# EAGLE library part TLP291-4 (library opto-coupler)
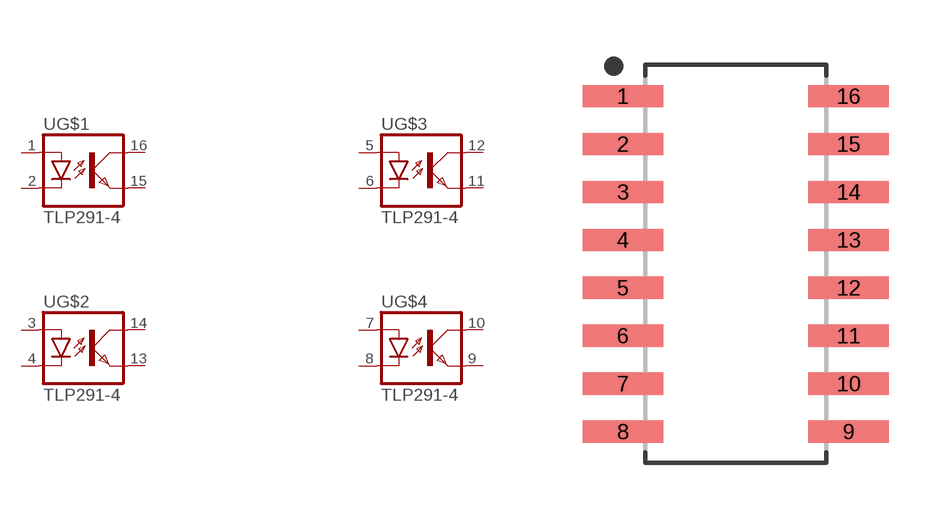
[diagram p0: symbol with the pads of SOIC127P700X220-16; footprint SOIC127P700X220-16]

Designator prefix -; gates G$1=OK G$2=OK G$3=OK G$4=OK

## TLP291-4  [SOIC127P700X220-16]
1  G$1:A  pas
2  G$1:C  pas
3  G$2:A  pas
4  G$2:C  pas
5  G$3:A  pas
6  G$3:C  pas
7  G$4:A  pas
8  G$4:C  pas
9  G$4:EMIT  pas
10  G$4:COL  pas
11  G$3:EMIT  pas
12  G$3:COL  pas
13  G$2:EMIT  pas
14  G$2:COL  pas
15  G$1:EMIT  pas
16  G$1:COL  pas

## Footprint SOIC127P700X220-16 (pad centres in mm)
16-SOIC, 1.27 mm pitch, 7.00 mm span, 10.35 X 4.60 X 2.20 mm body 16-pin SOIC package with 1.27 mm pitch, 7.00 mm span with body size 10.35 X 4.60 X 2.20 mm
smd 2.129 x 0.589: 1 -2.989,4.445; 2 -2.989,3.175; 3 -2.989,1.905; 4 -2.989,0.635; 5 -2.989,-0.635; 6 -2.989,-1.905; 7 -2.989,-3.175; 8 -2.989,-4.445; 9 2.989,-4.445; 10 2.989,-3.175; 11 2.989,-1.905; 12 2.989,-0.635; 13 2.989,0.635; 14 2.989,1.905; 15 2.989,3.175; 16 2.989,4.445